# Altium schematic symbol library WE-CAIR.SchLib: 60 symbols (part 1 of 2)
Pins are listed as number, name and electrical type; pins without a type are passive.

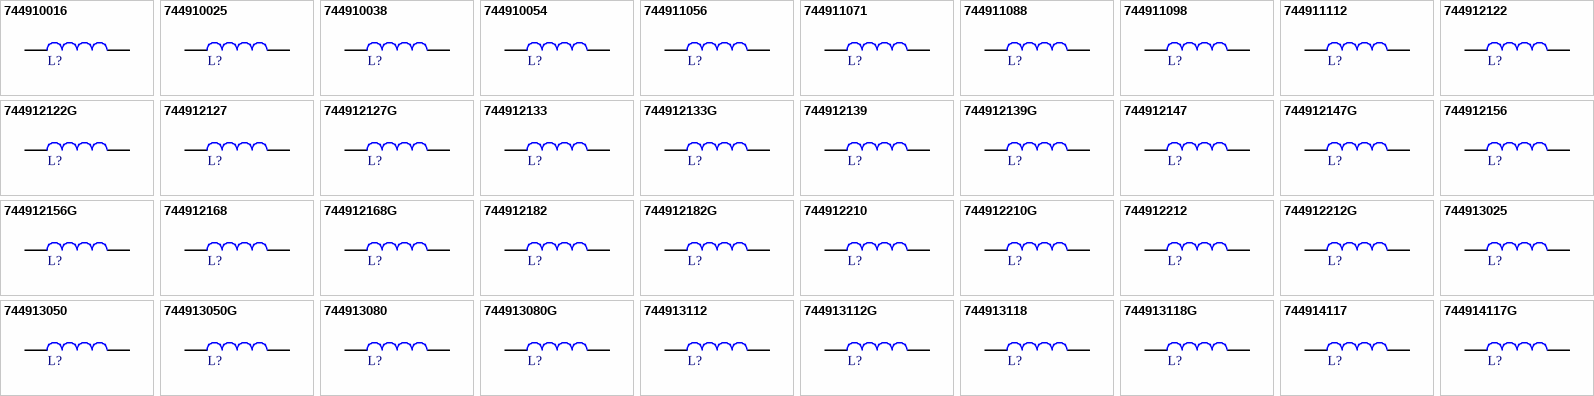
[diagram p0: symbols 744910016 to 744914117G]

## 744910016
designator L?, comment 1.65nH  (value not drawn)
WE-CAIR SMT Air Coil, size 1322, 1.65nH, 1.6A, 4mΩ; Manufacturer Part Number: 744910016; Manufacturer: Wurth Elektronik; Case/Size Code: 1322; Inductance Tolerance: 10%; Q Factor: 100; Self Resonant Frequency: 10GHz; Category: RF Inductors; Match Code: WE-CAIR; ComponentLink1Description: Website Link; ComponentLink1URL: https://www.we-online.com/redexpert/article/744910016?ad; ComponentLink2Description: Datasheet Link; ComponentLink2URL: https://www.we-online.com/redexpert/spec/744910016?ad; Mount: Surface Mount; Operating Temperature Max: 125°C; Operating Temperature Min: -40°C; Packaging: Tape and Reel; Length: 2.21mm; Width: 1.42mm; Height: 1.37mm; DC Resistance Max: 4mΩ; Inductance: 1.65nH; Rated Current: 1.6A
footprint WE-CAIR_1322
simulation model 1322_744910016_1.65n
pins: 1, 2

## 744910025
designator L?, comment 2.55nH  (value not drawn)
WE-CAIR SMT Air Coil, size 1322, 2.55nH, 1.6A, 5mΩ; Manufacturer Part Number: 744910025; Manufacturer: Wurth Elektronik; Case/Size Code: 1322; Inductance Tolerance: 5%; Q Factor: 100; Self Resonant Frequency: 8.2GHz; Category: RF Inductors; Match Code: WE-CAIR; ComponentLink1Description: Website Link; ComponentLink1URL: https://www.we-online.com/redexpert/article/744910025?ad; ComponentLink2Description: Datasheet Link; ComponentLink2URL: https://www.we-online.com/redexpert/spec/744910025?ad; Mount: Surface Mount; Operating Temperature Max: 125°C; Operating Temperature Min: -40°C; Packaging: Tape and Reel; Length: 2.21mm; Width: 1.42mm; Height: 1.37mm; DC Resistance Max: 5mΩ; Inductance: 2.55nH; Rated Current: 1.6A
footprint WE-CAIR_1322
simulation model 1322_744910025_2.55n
pins: 1, 2

## 744910038
designator L?, comment 3.85nH  (value not drawn)
WE-CAIR SMT Air Coil, size 1322, 3.85nH, 1.6A, 6mΩ; Manufacturer Part Number: 744910038; Manufacturer: Wurth Elektronik; Case/Size Code: 1322; Inductance Tolerance: 5%; Q Factor: 100; Self Resonant Frequency: 7.5GHz; Category: RF Inductors; Match Code: WE-CAIR; ComponentLink1Description: Website Link; ComponentLink1URL: https://www.we-online.com/redexpert/article/744910038?ad; ComponentLink2Description: Datasheet Link; ComponentLink2URL: https://www.we-online.com/redexpert/spec/744910038?ad; Mount: Surface Mount; Operating Temperature Max: 125°C; Operating Temperature Min: -40°C; Packaging: Tape and Reel; Length: 2.21mm; Width: 1.42mm; Height: 1.37mm; DC Resistance Max: 6mΩ; Inductance: 3.85nH; Rated Current: 1.6A
footprint WE-CAIR_1322
simulation model 1322_744910038_3.85n
pins: 1, 2

## 744910054
designator L?, comment 5.45nH  (value not drawn)
WE-CAIR SMT Air Coil, size 1322, 5.45nH, 1.6A, 8mΩ; Manufacturer Part Number: 744910054; Manufacturer: Wurth Elektronik; Case/Size Code: 1322; Inductance Tolerance: 5%; Q Factor: 100; Self Resonant Frequency: 7GHz; Category: RF Inductors; Match Code: WE-CAIR; ComponentLink1Description: Website Link; ComponentLink1URL: https://www.we-online.com/redexpert/article/744910054?ad; ComponentLink2Description: Datasheet Link; ComponentLink2URL: https://www.we-online.com/redexpert/spec/744910054?ad; Mount: Surface Mount; Operating Temperature Max: 125°C; Operating Temperature Min: -40°C; Packaging: Tape and Reel; Length: 2.21mm; Width: 1.42mm; Height: 1.37mm; DC Resistance Max: 8mΩ; Inductance: 5.45nH; Rated Current: 1.6A
footprint WE-CAIR_1322
simulation model 1322_744910054_5.45n
pins: 1, 2

## 744911056
designator L?, comment 5.6nH  (value not drawn)
WE-CAIR SMT Air Coil, size 1340, 5.6nH, 1.6A, 9mΩ; Manufacturer Part Number: 744911056; Manufacturer: Wurth Elektronik; Case/Size Code: 1340; Inductance Tolerance: 5%; Q Factor: 100; Self Resonant Frequency: 6.5GHz; Category: RF Inductors; Match Code: WE-CAIR; ComponentLink1Description: Website Link; ComponentLink1URL: https://www.we-online.com/redexpert/article/744911056?ad; ComponentLink2Description: Datasheet Link; ComponentLink2URL: https://www.we-online.com/redexpert/spec/744911056?ad; Mount: Surface Mount; Operating Temperature Max: 125°C; Operating Temperature Min: -40°C; Packaging: Tape and Reel; Length: 4.04mm; Width: 1.42mm; Height: 1.37mm; DC Resistance Max: 9mΩ; Inductance: 5.6nH; Rated Current: 1.6A
footprint WE-CAIR_1340
simulation model 1340_744911056_5.6n
pins: 1, 2

## 744911071
designator L?, comment 7.15nH  (value not drawn)
WE-CAIR SMT Air Coil, size 1340, 7.15nH, 1.6A, 10mΩ; Manufacturer Part Number: 744911071; Manufacturer: Wurth Elektronik; Case/Size Code: 1340; Inductance Tolerance: 5%; Q Factor: 100; Self Resonant Frequency: 6GHz; Category: RF Inductors; Match Code: WE-CAIR; ComponentLink1Description: Website Link; ComponentLink1URL: https://www.we-online.com/redexpert/article/744911071?ad; ComponentLink2Description: Datasheet Link; ComponentLink2URL: https://www.we-online.com/redexpert/spec/744911071?ad; Mount: Surface Mount; Operating Temperature Max: 125°C; Operating Temperature Min: -40°C; Packaging: Tape and Reel; Length: 4.04mm; Width: 1.42mm; Height: 1.37mm; DC Resistance Max: 10mΩ; Inductance: 7.15nH; Rated Current: 1.6A
footprint WE-CAIR_1340
simulation model 1340_744911071_7.15n
pins: 1, 2

## 744911088
designator L?, comment 8.8nH  (value not drawn)
WE-CAIR SMT Air Coil, size 1340, 8.8nH, 1.6A, 12mΩ; Manufacturer Part Number: 744911088; Manufacturer: Wurth Elektronik; Case/Size Code: 1340; Inductance Tolerance: 5%; Q Factor: 100; Self Resonant Frequency: 6GHz; Category: RF Inductors; Match Code: WE-CAIR; ComponentLink1Description: Website Link; ComponentLink1URL: https://www.we-online.com/redexpert/article/744911088?ad; ComponentLink2Description: Datasheet Link; ComponentLink2URL: https://www.we-online.com/redexpert/spec/744911088?ad; Mount: Surface Mount; Operating Temperature Max: 125°C; Operating Temperature Min: -40°C; Packaging: Tape and Reel; Length: 4.04mm; Width: 1.42mm; Height: 1.37mm; DC Resistance Max: 12mΩ; Inductance: 8.8nH; Rated Current: 1.6A
footprint WE-CAIR_1340
simulation model 1340_744911088_8.8n
pins: 1, 2

## 744911098
designator L?, comment 9.85nH  (value not drawn)
WE-CAIR SMT Air Coil, size 1340, 9.85nH, 1.6A, 13mΩ; Manufacturer Part Number: 744911098; Manufacturer: Wurth Elektronik; Case/Size Code: 1340; Inductance Tolerance: 5%; Q Factor: 100; Self Resonant Frequency: 5.2GHz; Category: RF Inductors; Match Code: WE-CAIR; ComponentLink1Description: Website Link; ComponentLink1URL: https://www.we-online.com/redexpert/article/744911098?ad; ComponentLink2Description: Datasheet Link; ComponentLink2URL: https://www.we-online.com/redexpert/spec/744911098?ad; Mount: Surface Mount; Operating Temperature Max: 125°C; Operating Temperature Min: -40°C; Packaging: Tape and Reel; Length: 4.04mm; Width: 1.42mm; Height: 1.37mm; DC Resistance Max: 13mΩ; Inductance: 9.85nH; Rated Current: 1.6A
footprint WE-CAIR_1340
simulation model 1340_744911098_9.85n
pins: 1, 2

## 744911112
designator L?, comment 12.55nH  (value not drawn)
WE-CAIR SMT Air Coil, size 1340, 12.55nH, 1.6A, 14mΩ; Manufacturer Part Number: 744911112; Manufacturer: Wurth Elektronik; Case/Size Code: 1340; Inductance Tolerance: 5%; Q Factor: 100; Self Resonant Frequency: 4.6GHz; Category: RF Inductors; Match Code: WE-CAIR; ComponentLink1Description: Website Link; ComponentLink1URL: https://www.we-online.com/redexpert/article/744911112?ad; ComponentLink2Description: Datasheet Link; ComponentLink2URL: https://www.we-online.com/redexpert/spec/744911112?ad; Mount: Surface Mount; Operating Temperature Max: 125°C; Operating Temperature Min: -40°C; Packaging: Tape and Reel; Length: 4.04mm; Width: 1.42mm; Height: 1.37mm; DC Resistance Max: 14mΩ; Inductance: 12.55nH; Rated Current: 1.6A
footprint WE-CAIR_1340
simulation model 1340_744911112_12.55n
pins: 1, 2

## 744912122
designator L?, comment 22nH  (value not drawn)
WE-CAIR SMT Air Coil, size 4248, 22nH, 3A, 4.2mΩ; Manufacturer Part Number: 744912122; Manufacturer: Wurth Elektronik; Case/Size Code: 4248; Inductance Tolerance: 5%; Q Factor: 100; Self Resonant Frequency: 3.2GHz; Category: RF Inductors; Match Code: WE-CAIR; ComponentLink1Description: Website Link; ComponentLink1URL: https://www.we-online.com/redexpert/article/744912122?ad; ComponentLink2Description: Datasheet Link; ComponentLink2URL: https://www.we-online.com/redexpert/spec/744912122?ad; Mount: Surface Mount; Operating Temperature Max: 125°C; Operating Temperature Min: -40°C; Packaging: Tape and Reel; Length: 4.83mm; Width: 3.81mm; Height: 4.2mm; DC Resistance Max: 4.2mΩ; Inductance: 22nH; Rated Current: 3A
footprint WE-CAIR_4248
simulation model 4248_744912122_22n
pins: 1, 2

## 744912122G
designator L?, comment 22nH  (value not drawn)
WE-CAIR SMT Air Coil, size 4248, 22nH, 3A, 4.2mΩ; Manufacturer Part Number: 744912122G; Manufacturer: Wurth Elektronik; Case/Size Code: 4248; Inductance Tolerance: 2%; Q Factor: 100; Self Resonant Frequency: 3.2GHz; Category: RF Inductors; Match Code: WE-CAIR; ComponentLink1Description: Website Link; ComponentLink1URL: https://www.we-online.com/redexpert/article/744912122G?ad; ComponentLink2Description: Datasheet Link; ComponentLink2URL: https://www.we-online.com/redexpert/spec/744912122G?ad; Mount: Surface Mount; Operating Temperature Max: 125°C; Operating Temperature Min: -40°C; Packaging: Tape and Reel; Length: 4.83mm; Width: 3.81mm; Height: 4.2mm; DC Resistance Max: 4.2mΩ; Inductance: 22nH; Rated Current: 3A
footprint WE-CAIR_4248
simulation model 4248_744912122G_22n
pins: 1, 2

## 744912127
designator L?, comment 27nH  (value not drawn)
WE-CAIR SMT Air Coil, size 4248, 27nH, 3.5A, 4mΩ; Manufacturer Part Number: 744912127; Manufacturer: Wurth Elektronik; Case/Size Code: 4248; Inductance Tolerance: 5%; Q Factor: 100; Self Resonant Frequency: 2.7GHz; Category: RF Inductors; Match Code: WE-CAIR; ComponentLink1Description: Website Link; ComponentLink1URL: https://www.we-online.com/redexpert/article/744912127?ad; ComponentLink2Description: Datasheet Link; ComponentLink2URL: https://www.we-online.com/redexpert/spec/744912127?ad; Mount: Surface Mount; Operating Temperature Max: 125°C; Operating Temperature Min: -40°C; Packaging: Tape and Reel; Length: 4.83mm; Width: 3.81mm; Height: 4.2mm; DC Resistance Max: 4mΩ; Inductance: 27nH; Rated Current: 3.5A
footprint WE-CAIR_4248
simulation model 4248_744912127_27n
pins: 1, 2

## 744912127G
designator L?, comment 27nH  (value not drawn)
WE-CAIR SMT Air Coil, size 4248, 27nH, 3.5A, 4mΩ; Manufacturer Part Number: 744912127G; Manufacturer: Wurth Elektronik; Case/Size Code: 4248; Inductance Tolerance: 2%; Q Factor: 100; Self Resonant Frequency: 2.7GHz; Category: RF Inductors; Match Code: WE-CAIR; ComponentLink1Description: Website Link; ComponentLink1URL: https://www.we-online.com/redexpert/article/744912127G?ad; ComponentLink2Description: Datasheet Link; ComponentLink2URL: https://www.we-online.com/redexpert/spec/744912127G?ad; Mount: Surface Mount; Operating Temperature Max: 125°C; Operating Temperature Min: -40°C; Packaging: Tape and Reel; Length: 4.83mm; Width: 3.81mm; Height: 4.2mm; DC Resistance Max: 4mΩ; Inductance: 27nH; Rated Current: 3.5A
footprint WE-CAIR_4248
simulation model 4248_744912127G_27n
pins: 1, 2

## 744912133
designator L?, comment 33nH  (value not drawn)
WE-CAIR SMT Air Coil, size 4248, 33nH, 3A, 4.8mΩ; Manufacturer Part Number: 744912133; Manufacturer: Wurth Elektronik; Case/Size Code: 4248; Inductance Tolerance: 5%; Q Factor: 100; Self Resonant Frequency: 2.5GHz; Category: RF Inductors; Match Code: WE-CAIR; ComponentLink1Description: Website Link; ComponentLink1URL: https://www.we-online.com/redexpert/article/744912133?ad; ComponentLink2Description: Datasheet Link; ComponentLink2URL: https://www.we-online.com/redexpert/spec/744912133?ad; Mount: Surface Mount; Operating Temperature Max: 125°C; Operating Temperature Min: -40°C; Packaging: Tape and Reel; Length: 4.83mm; Width: 3.81mm; Height: 4.2mm; DC Resistance Max: 4.8mΩ; Inductance: 33nH; Rated Current: 3A
footprint WE-CAIR_4248
simulation model 4248_744912133_33n
pins: 1, 2

## 744912133G
designator L?, comment 33nH  (value not drawn)
WE-CAIR SMT Air Coil, size 4248, 33nH, 3A, 4.8mΩ; Manufacturer Part Number: 744912133G; Manufacturer: Wurth Elektronik; Case/Size Code: 4248; Inductance Tolerance: 2%; Q Factor: 100; Self Resonant Frequency: 2.5GHz; Category: RF Inductors; Match Code: WE-CAIR; ComponentLink1Description: Website Link; ComponentLink1URL: https://www.we-online.com/redexpert/article/744912133G?ad; ComponentLink2Description: Datasheet Link; ComponentLink2URL: https://www.we-online.com/redexpert/spec/744912133G?ad; Mount: Surface Mount; Operating Temperature Max: 125°C; Operating Temperature Min: -40°C; Packaging: Tape and Reel; Length: 4.83mm; Width: 3.81mm; Height: 4.2mm; DC Resistance Max: 4.8mΩ; Inductance: 33nH; Rated Current: 3A
footprint WE-CAIR_4248
simulation model 4248_744912133G_33n
pins: 1, 2

## 744912139
designator L?, comment 39nH  (value not drawn)
WE-CAIR SMT Air Coil, size 4248, 39nH, 3A, 4.4mΩ; Manufacturer Part Number: 744912139; Manufacturer: Wurth Elektronik; Case/Size Code: 4248; Inductance Tolerance: 5%; Q Factor: 100; Self Resonant Frequency: 2.1GHz; Category: RF Inductors; Match Code: WE-CAIR; ComponentLink1Description: Website Link; ComponentLink1URL: https://www.we-online.com/redexpert/article/744912139?ad; ComponentLink2Description: Datasheet Link; ComponentLink2URL: https://www.we-online.com/redexpert/spec/744912139?ad; Mount: Surface Mount; Operating Temperature Max: 125°C; Operating Temperature Min: -40°C; Packaging: Tape and Reel; Length: 4.83mm; Width: 3.81mm; Height: 4.2mm; DC Resistance Max: 4.4mΩ; Inductance: 39nH; Rated Current: 3A
footprint WE-CAIR_4248
simulation model 4248_744912139_39n
pins: 1, 2

## 744912139G
designator L?, comment 39nH  (value not drawn)
WE-CAIR SMT Air Coil, size 4248, 39nH, 3A, 4.4mΩ; Manufacturer Part Number: 744912139G; Manufacturer: Wurth Elektronik; Case/Size Code: 4248; Inductance Tolerance: 2%; Q Factor: 100; Self Resonant Frequency: 2.1GHz; Category: RF Inductors; Match Code: WE-CAIR; ComponentLink1Description: Website Link; ComponentLink1URL: https://www.we-online.com/redexpert/article/744912139G?ad; ComponentLink2Description: Datasheet Link; ComponentLink2URL: https://www.we-online.com/redexpert/spec/744912139G?ad; Mount: Surface Mount; Operating Temperature Max: 125°C; Operating Temperature Min: -40°C; Packaging: Tape and Reel; Length: 4.83mm; Width: 3.81mm; Height: 4.2mm; DC Resistance Max: 4.4mΩ; Inductance: 39nH; Rated Current: 3A
footprint WE-CAIR_4248
simulation model 4248_744912139G_39n
pins: 1, 2

## 744912147
designator L?, comment 47nH  (value not drawn)
WE-CAIR SMT Air Coil, size 4248, 47nH, 3A, 5.6mΩ; Manufacturer Part Number: 744912147; Manufacturer: Wurth Elektronik; Case/Size Code: 4248; Inductance Tolerance: 5%; Q Factor: 100; Self Resonant Frequency: 2.1GHz; Category: RF Inductors; Match Code: WE-CAIR; ComponentLink1Description: Website Link; ComponentLink1URL: https://www.we-online.com/redexpert/article/744912147?ad; ComponentLink2Description: Datasheet Link; ComponentLink2URL: https://www.we-online.com/redexpert/spec/744912147?ad; Mount: Surface Mount; Operating Temperature Max: 125°C; Operating Temperature Min: -40°C; Packaging: Tape and Reel; Length: 4.83mm; Width: 3.81mm; Height: 4.2mm; DC Resistance Max: 5.6mΩ; Inductance: 47nH; Rated Current: 3A
footprint WE-CAIR_4248
simulation model 4248_744912147_47n
pins: 1, 2

## 744912147G
designator L?, comment 47nH  (value not drawn)
WE-CAIR SMT Air Coil, size 4248, 47nH, 3A, 5.6mΩ; Manufacturer Part Number: 744912147G; Manufacturer: Wurth Elektronik; Case/Size Code: 4248; Inductance Tolerance: 2%; Q Factor: 100; Self Resonant Frequency: 2.1GHz; Category: RF Inductors; Match Code: WE-CAIR; ComponentLink1Description: Website Link; ComponentLink1URL: https://www.we-online.com/redexpert/article/744912147G?ad; ComponentLink2Description: Datasheet Link; ComponentLink2URL: https://www.we-online.com/redexpert/spec/744912147G?ad; Mount: Surface Mount; Operating Temperature Max: 125°C; Operating Temperature Min: -40°C; Packaging: Tape and Reel; Length: 4.83mm; Width: 3.81mm; Height: 4.2mm; DC Resistance Max: 5.6mΩ; Inductance: 47nH; Rated Current: 3A
footprint WE-CAIR_4248
simulation model 4248_744912147G_47n
pins: 1, 2

## 744912156
designator L?, comment 56nH  (value not drawn)
WE-CAIR SMT Air Coil, size 4248, 56nH, 3A, 6.2mΩ; Manufacturer Part Number: 744912156; Manufacturer: Wurth Elektronik; Case/Size Code: 4248; Inductance Tolerance: 5%; Q Factor: 100; Self Resonant Frequency: 1.5GHz; Category: RF Inductors; Match Code: WE-CAIR; ComponentLink1Description: Website Link; ComponentLink1URL: https://www.we-online.com/redexpert/article/744912156?ad; ComponentLink2Description: Datasheet Link; ComponentLink2URL: https://www.we-online.com/redexpert/spec/744912156?ad; Mount: Surface Mount; Operating Temperature Max: 125°C; Operating Temperature Min: -40°C; Packaging: Tape and Reel; Length: 4.83mm; Width: 3.81mm; Height: 4.2mm; DC Resistance Max: 6.2mΩ; Inductance: 56nH; Rated Current: 3A
footprint WE-CAIR_4248
simulation model 4248_744912156_56n
pins: 1, 2

## 744912156G
designator L?, comment 56nH  (value not drawn)
WE-CAIR SMT Air Coil, size 4248, 56nH, 3A, 6.2mΩ; Manufacturer Part Number: 744912156G; Manufacturer: Wurth Elektronik; Case/Size Code: 4248; Inductance Tolerance: 2%; Q Factor: 100; Self Resonant Frequency: 1.5GHz; Category: RF Inductors; Match Code: WE-CAIR; ComponentLink1Description: Website Link; ComponentLink1URL: https://www.we-online.com/redexpert/article/744912156G?ad; ComponentLink2Description: Datasheet Link; ComponentLink2URL: https://www.we-online.com/redexpert/spec/744912156G?ad; Mount: Surface Mount; Operating Temperature Max: 125°C; Operating Temperature Min: -40°C; Packaging: Tape and Reel; Length: 4.83mm; Width: 3.81mm; Height: 4.2mm; DC Resistance Max: 6.2mΩ; Inductance: 56nH; Rated Current: 3A
footprint WE-CAIR_4248
simulation model 4248_744912156G_56n
pins: 1, 2

## 744912168
designator L?, comment 68nH  (value not drawn)
WE-CAIR SMT Air Coil, size 4248, 68nH, 2.5A, 8.2mΩ; Manufacturer Part Number: 744912168; Manufacturer: Wurth Elektronik; Case/Size Code: 4248; Inductance Tolerance: 5%; Q Factor: 100; Self Resonant Frequency: 1.5GHz; Category: RF Inductors; Match Code: WE-CAIR; ComponentLink1Description: Website Link; ComponentLink1URL: https://www.we-online.com/redexpert/article/744912168?ad; ComponentLink2Description: Datasheet Link; ComponentLink2URL: https://www.we-online.com/redexpert/spec/744912168?ad; Mount: Surface Mount; Operating Temperature Max: 125°C; Operating Temperature Min: -40°C; Packaging: Tape and Reel; Length: 4.83mm; Width: 3.81mm; Height: 4.2mm; DC Resistance Max: 8.2mΩ; Inductance: 68nH; Rated Current: 2.5A
footprint WE-CAIR_4248
simulation model 4248_744912168_68n
pins: 1, 2

## 744912168G
designator L?, comment 68nH  (value not drawn)
WE-CAIR SMT Air Coil, size 4248, 68nH, 2.5A, 8.2mΩ; Manufacturer Part Number: 744912168G; Manufacturer: Wurth Elektronik; Case/Size Code: 4248; Inductance Tolerance: 2%; Q Factor: 100; Self Resonant Frequency: 1.5GHz; Category: RF Inductors; Match Code: WE-CAIR; ComponentLink1Description: Website Link; ComponentLink1URL: https://www.we-online.com/redexpert/article/744912168G?ad; ComponentLink2Description: Datasheet Link; ComponentLink2URL: https://www.we-online.com/redexpert/spec/744912168G?ad; Mount: Surface Mount; Operating Temperature Max: 125°C; Operating Temperature Min: -40°C; Packaging: Tape and Reel; Length: 4.83mm; Width: 3.81mm; Height: 4.2mm; DC Resistance Max: 8.2mΩ; Inductance: 68nH; Rated Current: 2.5A
footprint WE-CAIR_4248
simulation model 4248_744912168G_68n
pins: 1, 2

## 744912182
designator L?, comment 82nH  (value not drawn)
WE-CAIR SMT Air Coil, size 4248, 82nH, 2.5A, 9.4mΩ; Manufacturer Part Number: 744912182; Manufacturer: Wurth Elektronik; Case/Size Code: 4248; Inductance Tolerance: 5%; Q Factor: 100; Self Resonant Frequency: 1.3GHz; Category: RF Inductors; Match Code: WE-CAIR; ComponentLink1Description: Website Link; ComponentLink1URL: https://www.we-online.com/redexpert/article/744912182?ad; ComponentLink2Description: Datasheet Link; ComponentLink2URL: https://www.we-online.com/redexpert/spec/744912182?ad; Mount: Surface Mount; Operating Temperature Max: 125°C; Operating Temperature Min: -40°C; Packaging: Tape and Reel; Length: 4.83mm; Width: 3.81mm; Height: 4.2mm; DC Resistance Max: 9.4mΩ; Inductance: 82nH; Rated Current: 2.5A
footprint WE-CAIR_4248
simulation model 4248_744912182_82n
pins: 1, 2

## 744912182G
designator L?, comment 82nH  (value not drawn)
WE-CAIR SMT Air Coil, size 4248, 82nH, 2.5A, 9.4mΩ; Manufacturer Part Number: 744912182G; Manufacturer: Wurth Elektronik; Case/Size Code: 4248; Inductance Tolerance: 2%; Q Factor: 100; Self Resonant Frequency: 1.3GHz; Category: RF Inductors; Match Code: WE-CAIR; ComponentLink1Description: Website Link; ComponentLink1URL: https://www.we-online.com/redexpert/article/744912182G?ad; ComponentLink2Description: Datasheet Link; ComponentLink2URL: https://www.we-online.com/redexpert/spec/744912182G?ad; Mount: Surface Mount; Operating Temperature Max: 125°C; Operating Temperature Min: -40°C; Packaging: Tape and Reel; Length: 4.83mm; Width: 3.81mm; Height: 4.2mm; DC Resistance Max: 9.4mΩ; Inductance: 82nH; Rated Current: 2.5A
footprint WE-CAIR_4248
simulation model 4248_744912182G_82n
pins: 1, 2

## 744912210
designator L?, comment 100nH  (value not drawn)
WE-CAIR SMT Air Coil, size 4248, 100nH, 1.7A, 12.3mΩ; Manufacturer Part Number: 744912210; Manufacturer: Wurth Elektronik; Case/Size Code: 4248; Inductance Tolerance: 5%; Q Factor: 100; Self Resonant Frequency: 1.2GHz; Category: RF Inductors; Match Code: WE-CAIR; ComponentLink1Description: Website Link; ComponentLink1URL: https://www.we-online.com/redexpert/article/744912210?ad; ComponentLink2Description: Datasheet Link; ComponentLink2URL: https://www.we-online.com/redexpert/spec/744912210?ad; Mount: Surface Mount; Operating Temperature Max: 125°C; Operating Temperature Min: -40°C; Packaging: Tape and Reel; Length: 4.83mm; Width: 3.81mm; Height: 4.2mm; DC Resistance Max: 12.3mΩ; Inductance: 100nH; Rated Current: 1.7A
footprint WE-CAIR_4248
simulation model 4248_744912210_100n
pins: 1, 2

## 744912210G
designator L?, comment 100nH  (value not drawn)
WE-CAIR SMT Air Coil, size 4248, 100nH, 1.7A, 12.3mΩ; Manufacturer Part Number: 744912210G; Manufacturer: Wurth Elektronik; Case/Size Code: 4248; Inductance Tolerance: 2%; Q Factor: 100; Self Resonant Frequency: 1.2GHz; Category: RF Inductors; Match Code: WE-CAIR; ComponentLink1Description: Website Link; ComponentLink1URL: https://www.we-online.com/redexpert/article/744912210G?ad; ComponentLink2Description: Datasheet Link; ComponentLink2URL: https://www.we-online.com/redexpert/spec/744912210G?ad; Mount: Surface Mount; Operating Temperature Max: 125°C; Operating Temperature Min: -40°C; Packaging: Tape and Reel; Length: 4.83mm; Width: 3.81mm; Height: 4.2mm; DC Resistance Max: 12.3mΩ; Inductance: 100nH; Rated Current: 1.7A
footprint WE-CAIR_4248
simulation model 4248_744912210G_100n
pins: 1, 2

## 744912212
designator L?, comment 120nH  (value not drawn)
WE-CAIR SMT Air Coil, size 4248, 120nH, 1.5A, 17.3mΩ; Manufacturer Part Number: 744912212; Manufacturer: Wurth Elektronik; Case/Size Code: 4248; Inductance Tolerance: 5%; Q Factor: 100; Self Resonant Frequency: 1.1GHz; Category: RF Inductors; Match Code: WE-CAIR; ComponentLink1Description: Website Link; ComponentLink1URL: https://www.we-online.com/redexpert/article/744912212?ad; ComponentLink2Description: Datasheet Link; ComponentLink2URL: https://www.we-online.com/redexpert/spec/744912212?ad; Mount: Surface Mount; Operating Temperature Max: 125°C; Operating Temperature Min: -40°C; Packaging: Tape and Reel; Length: 4.83mm; Width: 3.81mm; Height: 4.2mm; DC Resistance Max: 17.3mΩ; Inductance: 120nH; Rated Current: 1.5A
footprint WE-CAIR_4248
simulation model 4248_744912212_120n
pins: 1, 2

## 744912212G
designator L?, comment 120nH  (value not drawn)
WE-CAIR SMT Air Coil, size 4248, 120nH, 1.5A, 17.3mΩ; Manufacturer Part Number: 744912212G; Manufacturer: Wurth Elektronik; Case/Size Code: 4248; Inductance Tolerance: 2%; Q Factor: 100; Self Resonant Frequency: 1.1GHz; Category: RF Inductors; Match Code: WE-CAIR; ComponentLink1Description: Website Link; ComponentLink1URL: https://www.we-online.com/redexpert/article/744912212G?ad; ComponentLink2Description: Datasheet Link; ComponentLink2URL: https://www.we-online.com/redexpert/spec/744912212G?ad; Mount: Surface Mount; Operating Temperature Max: 125°C; Operating Temperature Min: -40°C; Packaging: Tape and Reel; Length: 4.83mm; Width: 3.81mm; Height: 4.2mm; DC Resistance Max: 17.3mΩ; Inductance: 120nH; Rated Current: 1.5A
footprint WE-CAIR_4248
simulation model 4248_744912212G_120n
pins: 1, 2

## 744913025
designator L?, comment 2.5nH  (value not drawn)
WE-CAIR SMT Air Coil, size 3136, 2.5nH, 4A, 1.1mΩ; Manufacturer Part Number: 744913025; Manufacturer: Wurth Elektronik; Case/Size Code: 3136; Inductance Tolerance: 5%; Q Factor: 140; Self Resonant Frequency: 12.5GHz; Category: RF Inductors; Match Code: WE-CAIR; ComponentLink1Description: Website Link; ComponentLink1URL: https://www.we-online.com/redexpert/article/744913025?ad; ComponentLink2Description: Datasheet Link; ComponentLink2URL: https://www.we-online.com/redexpert/spec/744913025?ad; Mount: Surface Mount; Operating Temperature Max: 125°C; Operating Temperature Min: -40°C; Packaging: Tape and Reel; Length: 3.68mm; Width: 3.05mm; Height: 3.18mm; DC Resistance Max: 1.1mΩ; Inductance: 2.5nH; Rated Current: 4A
footprint WE-CAIR_3136
simulation model 3136_744913025_2.5n
pins: 1, 2

## 744913050
designator L?, comment 5nH  (value not drawn)
WE-CAIR SMT Air Coil, size 3136, 5nH, 4A, 1.8mΩ; Manufacturer Part Number: 744913050; Manufacturer: Wurth Elektronik; Case/Size Code: 3136; Inductance Tolerance: 5%; Q Factor: 140; Self Resonant Frequency: 6.5GHz; Category: RF Inductors; Match Code: WE-CAIR; ComponentLink1Description: Website Link; ComponentLink1URL: https://www.we-online.com/redexpert/article/744913050?ad; ComponentLink2Description: Datasheet Link; ComponentLink2URL: https://www.we-online.com/redexpert/spec/744913050?ad; Mount: Surface Mount; Operating Temperature Max: 125°C; Operating Temperature Min: -40°C; Packaging: Tape and Reel; Length: 3.68mm; Width: 3.05mm; Height: 3.18mm; DC Resistance Max: 1.8mΩ; Inductance: 5nH; Rated Current: 4A
footprint WE-CAIR_3136
simulation model 3136_744913050_5n
pins: 1, 2

## 744913050G
designator L?, comment 5nH  (value not drawn)
WE-CAIR SMT Air Coil, size 3136, 5nH, 4A, 1.8mΩ; Manufacturer Part Number: 744913050G; Manufacturer: Wurth Elektronik; Case/Size Code: 3136; Inductance Tolerance: 2%; Q Factor: 140; Self Resonant Frequency: 6.5GHz; Category: RF Inductors; Match Code: WE-CAIR; ComponentLink1Description: Website Link; ComponentLink1URL: https://www.we-online.com/redexpert/article/744913050G?ad; ComponentLink2Description: Datasheet Link; ComponentLink2URL: https://www.we-online.com/redexpert/spec/744913050G?ad; Mount: Surface Mount; Operating Temperature Max: 125°C; Operating Temperature Min: -40°C; Packaging: Tape and Reel; Length: 3.68mm; Width: 3.05mm; Height: 3.18mm; DC Resistance Max: 1.8mΩ; Inductance: 5nH; Rated Current: 4A
footprint WE-CAIR_3136
simulation model 3136_744913050G_5n
pins: 1, 2

## 744913080
designator L?, comment 8nH  (value not drawn)
WE-CAIR SMT Air Coil, size 3136, 8nH, 4A, 2.6mΩ; Manufacturer Part Number: 744913080; Manufacturer: Wurth Elektronik; Case/Size Code: 3136; Inductance Tolerance: 5%; Q Factor: 140; Self Resonant Frequency: 5GHz; Category: RF Inductors; Match Code: WE-CAIR; ComponentLink1Description: Website Link; ComponentLink1URL: https://www.we-online.com/redexpert/article/744913080?ad; ComponentLink2Description: Datasheet Link; ComponentLink2URL: https://www.we-online.com/redexpert/spec/744913080?ad; Mount: Surface Mount; Operating Temperature Max: 125°C; Operating Temperature Min: -40°C; Packaging: Tape and Reel; Length: 3.68mm; Width: 3.05mm; Height: 3.18mm; DC Resistance Max: 2.6mΩ; Inductance: 8nH; Rated Current: 4A
footprint WE-CAIR_3136
simulation model 3136_744913080_8n
pins: 1, 2

## 744913080G
designator L?, comment 8nH  (value not drawn)
WE-CAIR SMT Air Coil, size 3136, 8nH, 4A, 2.6mΩ; Manufacturer Part Number: 744913080G; Manufacturer: Wurth Elektronik; Case/Size Code: 3136; Inductance Tolerance: 2%; Q Factor: 140; Self Resonant Frequency: 5GHz; Category: RF Inductors; Match Code: WE-CAIR; ComponentLink1Description: Website Link; ComponentLink1URL: https://www.we-online.com/redexpert/article/744913080G?ad; ComponentLink2Description: Datasheet Link; ComponentLink2URL: https://www.we-online.com/redexpert/spec/744913080G?ad; Mount: Surface Mount; Operating Temperature Max: 125°C; Operating Temperature Min: -40°C; Packaging: Tape and Reel; Length: 3.68mm; Width: 3.05mm; Height: 3.18mm; DC Resistance Max: 2.6mΩ; Inductance: 8nH; Rated Current: 4A
footprint WE-CAIR_3136
simulation model 3136_744913080G_8n
pins: 1, 2

## 744913112
designator L?, comment 12.5nH  (value not drawn)
WE-CAIR SMT Air Coil, size 3136, 12.5nH, 4A, 3.4mΩ; Manufacturer Part Number: 744913112; Manufacturer: Wurth Elektronik; Case/Size Code: 3136; Inductance Tolerance: 5%; Q Factor: 137; Self Resonant Frequency: 3.3GHz; Category: RF Inductors; Match Code: WE-CAIR; ComponentLink1Description: Website Link; ComponentLink1URL: https://www.we-online.com/redexpert/article/744913112?ad; ComponentLink2Description: Datasheet Link; ComponentLink2URL: https://www.we-online.com/redexpert/spec/744913112?ad; Mount: Surface Mount; Operating Temperature Max: 125°C; Operating Temperature Min: -40°C; Packaging: Tape and Reel; Length: 3.68mm; Width: 3.05mm; Height: 3.18mm; DC Resistance Max: 3.4mΩ; Inductance: 12.5nH; Rated Current: 4A
footprint WE-CAIR_3136
simulation model 3136_744913112_12.5n
pins: 1, 2

## 744913112G
designator L?, comment 12.5nH  (value not drawn)
WE-CAIR SMT Air Coil, size 3136, 12.5nH, 4A, 3.4mΩ; Manufacturer Part Number: 744913112G; Manufacturer: Wurth Elektronik; Case/Size Code: 3136; Inductance Tolerance: 2%; Q Factor: 137; Self Resonant Frequency: 3.3GHz; Category: RF Inductors; Match Code: WE-CAIR; ComponentLink1Description: Website Link; ComponentLink1URL: https://www.we-online.com/redexpert/article/744913112G?ad; ComponentLink2Description: Datasheet Link; ComponentLink2URL: https://www.we-online.com/redexpert/spec/744913112G?ad; Mount: Surface Mount; Operating Temperature Max: 125°C; Operating Temperature Min: -40°C; Packaging: Tape and Reel; Length: 3.68mm; Width: 3.05mm; Height: 3.18mm; DC Resistance Max: 3.4mΩ; Inductance: 12.5nH; Rated Current: 4A
footprint WE-CAIR_3136
simulation model 3136_744913112G_12.5n
pins: 1, 2

## 744913118
designator L?, comment 18.5nH  (value not drawn)
WE-CAIR SMT Air Coil, size 3136, 18.5nH, 4A, 3.9mΩ; Manufacturer Part Number: 744913118; Manufacturer: Wurth Elektronik; Case/Size Code: 3136; Inductance Tolerance: 5%; Q Factor: 132; Self Resonant Frequency: 2.5GHz; Category: RF Inductors; Match Code: WE-CAIR; ComponentLink1Description: Website Link; ComponentLink1URL: https://www.we-online.com/redexpert/article/744913118?ad; ComponentLink2Description: Datasheet Link; ComponentLink2URL: https://www.we-online.com/redexpert/spec/744913118?ad; Mount: Surface Mount; Operating Temperature Max: 125°C; Operating Temperature Min: -40°C; Packaging: Tape and Reel; Length: 3.68mm; Width: 3.05mm; Height: 3.18mm; DC Resistance Max: 3.9mΩ; Inductance: 18.5nH; Rated Current: 4A
footprint WE-CAIR_3136
simulation model 3136_744913118_18.5n
pins: 1, 2

## 744913118G
designator L?, comment 18.5nH  (value not drawn)
WE-CAIR SMT Air Coil, size 3136, 18.5nH, 4A, 3.9mΩ; Manufacturer Part Number: 744913118G; Manufacturer: Wurth Elektronik; Case/Size Code: 3136; Inductance Tolerance: 2%; Q Factor: 132; Self Resonant Frequency: 2.5GHz; Category: RF Inductors; Match Code: WE-CAIR; ComponentLink1Description: Website Link; ComponentLink1URL: https://www.we-online.com/redexpert/article/744913118G?ad; ComponentLink2Description: Datasheet Link; ComponentLink2URL: https://www.we-online.com/redexpert/spec/744913118G?ad; Mount: Surface Mount; Operating Temperature Max: 125°C; Operating Temperature Min: -40°C; Packaging: Tape and Reel; Length: 3.68mm; Width: 3.05mm; Height: 3.18mm; DC Resistance Max: 3.9mΩ; Inductance: 18.5nH; Rated Current: 4A
footprint WE-CAIR_3136
simulation model 3136_744913118G_18.5n
pins: 1, 2

## 744914117
designator L?, comment 17.5nH  (value not drawn)
WE-CAIR SMT Air Coil, size 3168, 17.5nH, 4A, 4.5mΩ; Manufacturer Part Number: 744914117; Manufacturer: Wurth Elektronik; Case/Size Code: 3168; Inductance Tolerance: 5%; Q Factor: 100; Self Resonant Frequency: 2.2GHz; Category: RF Inductors; Match Code: WE-CAIR; ComponentLink1Description: Website Link; ComponentLink1URL: https://www.we-online.com/redexpert/article/744914117?ad; ComponentLink2Description: Datasheet Link; ComponentLink2URL: https://www.we-online.com/redexpert/spec/744914117?ad; Mount: Surface Mount; Operating Temperature Max: 125°C; Operating Temperature Min: -40°C; Packaging: Tape and Reel; Length: 6.68mm; Width: 3.05mm; Height: 3.18mm; DC Resistance Max: 4.5mΩ; Inductance: 17.5nH; Rated Current: 4A
footprint WE-CAIR_3168
simulation model 3168_744914117_17.5n
pins: 1, 2

## 744914117G
designator L?, comment 17.5nH  (value not drawn)
WE-CAIR SMT Air Coil, size 3168, 17.5nH, 4A, 4.5mΩ; Manufacturer Part Number: 744914117G; Manufacturer: Wurth Elektronik; Case/Size Code: 3168; Inductance Tolerance: 2%; Q Factor: 100; Self Resonant Frequency: 2.2GHz; Category: RF Inductors; Match Code: WE-CAIR; ComponentLink1Description: Website Link; ComponentLink1URL: https://www.we-online.com/redexpert/article/744914117G?ad; ComponentLink2Description: Datasheet Link; ComponentLink2URL: https://www.we-online.com/redexpert/spec/744914117G?ad; Mount: Surface Mount; Operating Temperature Max: 125°C; Operating Temperature Min: -40°C; Packaging: Tape and Reel; Length: 6.68mm; Width: 3.05mm; Height: 3.18mm; DC Resistance Max: 4.5mΩ; Inductance: 17.5nH; Rated Current: 4A
footprint WE-CAIR_3168
simulation model 3168_744914117G_17.5n
pins: 1, 2

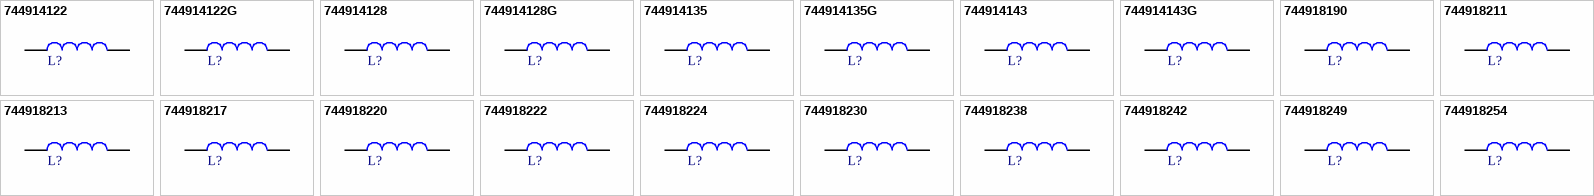
[diagram p1: symbols 744914122 to 744918254]

## 744914122
designator L?, comment 22nH  (value not drawn)
WE-CAIR SMT Air Coil, size 3168, 22nH, 4A, 5.2mΩ; Manufacturer Part Number: 744914122; Manufacturer: Wurth Elektronik; Case/Size Code: 3168; Inductance Tolerance: 5%; Q Factor: 102; Self Resonant Frequency: 2.1GHz; Category: RF Inductors; Match Code: WE-CAIR; ComponentLink1Description: Website Link; ComponentLink1URL: https://www.we-online.com/redexpert/article/744914122?ad; ComponentLink2Description: Datasheet Link; ComponentLink2URL: https://www.we-online.com/redexpert/spec/744914122?ad; Mount: Surface Mount; Operating Temperature Max: 125°C; Operating Temperature Min: -40°C; Packaging: Tape and Reel; Length: 6.68mm; Width: 3.05mm; Height: 3.18mm; DC Resistance Max: 5.2mΩ; Inductance: 22nH; Rated Current: 4A
footprint WE-CAIR_3168
simulation model 3168_744914122_22n
pins: 1, 2

## 744914122G
designator L?, comment 22nH  (value not drawn)
WE-CAIR SMT Air Coil, size 3168, 22nH, 4A, 5.2mΩ; Manufacturer Part Number: 744914122G; Manufacturer: Wurth Elektronik; Case/Size Code: 3168; Inductance Tolerance: 2%; Q Factor: 102; Self Resonant Frequency: 2.1GHz; Category: RF Inductors; Match Code: WE-CAIR; ComponentLink1Description: Website Link; ComponentLink1URL: https://www.we-online.com/redexpert/article/744914122G?ad; ComponentLink2Description: Datasheet Link; ComponentLink2URL: https://www.we-online.com/redexpert/spec/744914122G?ad; Mount: Surface Mount; Operating Temperature Max: 125°C; Operating Temperature Min: -40°C; Packaging: Tape and Reel; Length: 6.68mm; Width: 3.05mm; Height: 3.18mm; DC Resistance Max: 5.2mΩ; Inductance: 22nH; Rated Current: 4A
footprint WE-CAIR_3168
simulation model 3168_744914122G_22n
pins: 1, 2

## 744914128
designator L?, comment 28nH  (value not drawn)
WE-CAIR SMT Air Coil, size 3168, 28nH, 4A, 6mΩ; Manufacturer Part Number: 744914128; Manufacturer: Wurth Elektronik; Case/Size Code: 3168; Inductance Tolerance: 5%; Q Factor: 105; Self Resonant Frequency: 1.8GHz; Category: RF Inductors; Match Code: WE-CAIR; ComponentLink1Description: Website Link; ComponentLink1URL: https://www.we-online.com/redexpert/article/744914128?ad; ComponentLink2Description: Datasheet Link; ComponentLink2URL: https://www.we-online.com/redexpert/spec/744914128?ad; Mount: Surface Mount; Operating Temperature Max: 125°C; Operating Temperature Min: -40°C; Packaging: Tape and Reel; Length: 6.68mm; Width: 3.05mm; Height: 3.18mm; DC Resistance Max: 6mΩ; Inductance: 28nH; Rated Current: 4A
footprint WE-CAIR_3168
simulation model 3168_744914128_28n
pins: 1, 2

## 744914128G
designator L?, comment 28nH  (value not drawn)
WE-CAIR SMT Air Coil, size 3168, 28nH, 4A, 6mΩ; Manufacturer Part Number: 744914128G; Manufacturer: Wurth Elektronik; Case/Size Code: 3168; Inductance Tolerance: 2%; Q Factor: 105; Self Resonant Frequency: 1.8GHz; Category: RF Inductors; Match Code: WE-CAIR; ComponentLink1Description: Website Link; ComponentLink1URL: https://www.we-online.com/redexpert/article/744914128G?ad; ComponentLink2Description: Datasheet Link; ComponentLink2URL: https://www.we-online.com/redexpert/spec/744914128G?ad; Mount: Surface Mount; Operating Temperature Max: 125°C; Operating Temperature Min: -40°C; Packaging: Tape and Reel; Length: 6.68mm; Width: 3.05mm; Height: 3.18mm; DC Resistance Max: 6mΩ; Inductance: 28nH; Rated Current: 4A
footprint WE-CAIR_3168
simulation model 3168_744914128G_28n
pins: 1, 2

## 744914135
designator L?, comment 35.5nH  (value not drawn)
WE-CAIR SMT Air Coil, size 3168, 35.5nH, 4A, 6.8mΩ; Manufacturer Part Number: 744914135; Manufacturer: Wurth Elektronik; Case/Size Code: 3168; Inductance Tolerance: 5%; Q Factor: 112; Self Resonant Frequency: 1.5GHz; Category: RF Inductors; Match Code: WE-CAIR; ComponentLink1Description: Website Link; ComponentLink1URL: https://www.we-online.com/redexpert/article/744914135?ad; ComponentLink2Description: Datasheet Link; ComponentLink2URL: https://www.we-online.com/redexpert/spec/744914135?ad; Mount: Surface Mount; Operating Temperature Max: 125°C; Operating Temperature Min: -40°C; Packaging: Tape and Reel; Length: 6.68mm; Width: 3.05mm; Height: 3.18mm; DC Resistance Max: 6.8mΩ; Inductance: 35.5nH; Rated Current: 4A
footprint WE-CAIR_3168
simulation model 3168_744914135_35.5n
pins: 1, 2

## 744914135G
designator L?, comment 35.5nH  (value not drawn)
WE-CAIR SMT Air Coil, size 3168, 35.5nH, 4A, 6.8mΩ; Manufacturer Part Number: 744914135G; Manufacturer: Wurth Elektronik; Case/Size Code: 3168; Inductance Tolerance: 2%; Q Factor: 112; Self Resonant Frequency: 1.5GHz; Category: RF Inductors; Match Code: WE-CAIR; ComponentLink1Description: Website Link; ComponentLink1URL: https://www.we-online.com/redexpert/article/744914135G?ad; ComponentLink2Description: Datasheet Link; ComponentLink2URL: https://www.we-online.com/redexpert/spec/744914135G?ad; Mount: Surface Mount; Operating Temperature Max: 125°C; Operating Temperature Min: -40°C; Packaging: Tape and Reel; Length: 6.68mm; Width: 3.05mm; Height: 3.18mm; DC Resistance Max: 6.8mΩ; Inductance: 35.5nH; Rated Current: 4A
footprint WE-CAIR_3168
simulation model 3168_744914135G_35.5n
pins: 1, 2

## 744914143
designator L?, comment 43nH  (value not drawn)
WE-CAIR SMT Air Coil, size 3168, 43nH, 4A, 7.9mΩ; Manufacturer Part Number: 744914143; Manufacturer: Wurth Elektronik; Case/Size Code: 3168; Inductance Tolerance: 5%; Q Factor: 106; Self Resonant Frequency: 1.2GHz; Category: RF Inductors; Match Code: WE-CAIR; ComponentLink1Description: Website Link; ComponentLink1URL: https://www.we-online.com/redexpert/article/744914143?ad; ComponentLink2Description: Datasheet Link; ComponentLink2URL: https://www.we-online.com/redexpert/spec/744914143?ad; Mount: Surface Mount; Operating Temperature Max: 125°C; Operating Temperature Min: -40°C; Packaging: Tape and Reel; Length: 6.68mm; Width: 3.05mm; Height: 3.18mm; DC Resistance Max: 7.9mΩ; Inductance: 43nH; Rated Current: 4A
footprint WE-CAIR_3168
simulation model 3168_744914143_43n
pins: 1, 2

## 744914143G
designator L?, comment 43nH  (value not drawn)
WE-CAIR SMT Air Coil, size 3168, 43nH, 4A, 7.9mΩ; Manufacturer Part Number: 744914143G; Manufacturer: Wurth Elektronik; Case/Size Code: 3168; Inductance Tolerance: 2%; Q Factor: 106; Self Resonant Frequency: 1.2GHz; Category: RF Inductors; Match Code: WE-CAIR; ComponentLink1Description: Website Link; ComponentLink1URL: https://www.we-online.com/redexpert/article/744914143G?ad; ComponentLink2Description: Datasheet Link; ComponentLink2URL: https://www.we-online.com/redexpert/spec/744914143G?ad; Mount: Surface Mount; Operating Temperature Max: 125°C; Operating Temperature Min: -40°C; Packaging: Tape and Reel; Length: 6.68mm; Width: 3.05mm; Height: 3.18mm; DC Resistance Max: 7.9mΩ; Inductance: 43nH; Rated Current: 4A
footprint WE-CAIR_3168
simulation model 3168_744914143G_43n
pins: 1, 2

## 744918190
designator L?, comment 90nH  (value not drawn)
WE-CAIR SMT Air Coil, size 5910, 90nH, 3.5A, 15mΩ; Manufacturer Part Number: 744918190; Manufacturer: Wurth Elektronik; Case/Size Code: 5910; Inductance Tolerance: 5%; Q Factor: 100; Self Resonant Frequency: 1.14GHz; Category: RF Inductors; Match Code: WE-CAIR; ComponentLink1Description: Website Link; ComponentLink1URL: https://www.we-online.com/redexpert/article/744918190?ad; ComponentLink2Description: Datasheet Link; ComponentLink2URL: https://www.we-online.com/redexpert/spec/744918190?ad; Mount: Surface Mount; Operating Temperature Max: 125°C; Operating Temperature Min: -40°C; Packaging: Tape and Reel; Length: 10.55mm; Width: 6.35mm; Height: 5.9mm; DC Resistance Max: 15mΩ; Inductance: 90nH; Rated Current: 3.5A
footprint WE-CAIR_5910
simulation model 5910_744918190_90n
pins: 1, 2

## 744918211
designator L?, comment 111nH  (value not drawn)
WE-CAIR SMT Air Coil, size 5910, 111nH, 3.5A, 15mΩ; Manufacturer Part Number: 744918211; Manufacturer: Wurth Elektronik; Case/Size Code: 5910; Inductance Tolerance: 5%; Q Factor: 100; Self Resonant Frequency: 1.02GHz; Category: RF Inductors; Match Code: WE-CAIR; ComponentLink1Description: Website Link; ComponentLink1URL: https://www.we-online.com/redexpert/article/744918211?ad; ComponentLink2Description: Datasheet Link; ComponentLink2URL: https://www.we-online.com/redexpert/spec/744918211?ad; Mount: Surface Mount; Operating Temperature Max: 125°C; Operating Temperature Min: -40°C; Packaging: Tape and Reel; Length: 10.55mm; Width: 6.35mm; Height: 5.9mm; DC Resistance Max: 15mΩ; Inductance: 111nH; Rated Current: 3.5A
footprint WE-CAIR_5910
simulation model 5910_744918211_111n
pins: 1, 2

## 744918213
designator L?, comment 130nH  (value not drawn)
WE-CAIR SMT Air Coil, size 5910, 130nH, 3A, 20mΩ; Manufacturer Part Number: 744918213; Manufacturer: Wurth Elektronik; Case/Size Code: 5910; Inductance Tolerance: 5%; Q Factor: 100; Self Resonant Frequency: 0.9GHz; Category: RF Inductors; Match Code: WE-CAIR; ComponentLink1Description: Website Link; ComponentLink1URL: https://www.we-online.com/redexpert/article/744918213?ad; ComponentLink2Description: Datasheet Link; ComponentLink2URL: https://www.we-online.com/redexpert/spec/744918213?ad; Mount: Surface Mount; Operating Temperature Max: 125°C; Operating Temperature Min: -40°C; Packaging: Tape and Reel; Length: 10.55mm; Width: 6.35mm; Height: 5.9mm; DC Resistance Max: 20mΩ; Inductance: 130nH; Rated Current: 3A
footprint WE-CAIR_5910
simulation model 5910_744918213_130n
pins: 1, 2

## 744918217
designator L?, comment 169nH  (value not drawn)
WE-CAIR SMT Air Coil, size 5910, 169nH, 3A, 25mΩ; Manufacturer Part Number: 744918217; Manufacturer: Wurth Elektronik; Case/Size Code: 5910; Inductance Tolerance: 5%; Q Factor: 100; Self Resonant Frequency: 0.875GHz; Category: RF Inductors; Match Code: WE-CAIR; ComponentLink1Description: Website Link; ComponentLink1URL: https://www.we-online.com/redexpert/article/744918217?ad; ComponentLink2Description: Datasheet Link; ComponentLink2URL: https://www.we-online.com/redexpert/spec/744918217?ad; Mount: Surface Mount; Operating Temperature Max: 125°C; Operating Temperature Min: -40°C; Packaging: Tape and Reel; Length: 10.55mm; Width: 6.35mm; Height: 5.9mm; DC Resistance Max: 25mΩ; Inductance: 169nH; Rated Current: 3A
footprint WE-CAIR_5910
simulation model 5910_744918217_169n
pins: 1, 2

## 744918220
designator L?, comment 206nH  (value not drawn)
WE-CAIR SMT Air Coil, size 5910, 206nH, 3A, 30mΩ; Manufacturer Part Number: 744918220; Manufacturer: Wurth Elektronik; Case/Size Code: 5910; Inductance Tolerance: 5%; Q Factor: 100; Self Resonant Frequency: 0.8GHz; Category: RF Inductors; Match Code: WE-CAIR; ComponentLink1Description: Website Link; ComponentLink1URL: https://www.we-online.com/redexpert/article/744918220?ad; ComponentLink2Description: Datasheet Link; ComponentLink2URL: https://www.we-online.com/redexpert/spec/744918220?ad; Mount: Surface Mount; Operating Temperature Max: 125°C; Operating Temperature Min: -40°C; Packaging: Tape and Reel; Length: 10.55mm; Width: 6.35mm; Height: 5.9mm; DC Resistance Max: 30mΩ; Inductance: 206nH; Rated Current: 3A
footprint WE-CAIR_5910
simulation model 5910_744918220_206n
pins: 1, 2

## 744918222
designator L?, comment 222nH  (value not drawn)
WE-CAIR SMT Air Coil, size 5910, 222nH, 3A, 35mΩ; Manufacturer Part Number: 744918222; Manufacturer: Wurth Elektronik; Case/Size Code: 5910; Inductance Tolerance: 5%; Q Factor: 100; Self Resonant Frequency: 0.73GHz; Category: RF Inductors; Match Code: WE-CAIR; ComponentLink1Description: Website Link; ComponentLink1URL: https://www.we-online.com/redexpert/article/744918222?ad; ComponentLink2Description: Datasheet Link; ComponentLink2URL: https://www.we-online.com/redexpert/spec/744918222?ad; Mount: Surface Mount; Operating Temperature Max: 125°C; Operating Temperature Min: -40°C; Packaging: Tape and Reel; Length: 10.55mm; Width: 6.35mm; Height: 5.9mm; DC Resistance Max: 35mΩ; Inductance: 222nH; Rated Current: 3A
footprint WE-CAIR_5910
simulation model 5910_744918222_222n
pins: 1, 2

## 744918224
designator L?, comment 246nH  (value not drawn)
WE-CAIR SMT Air Coil, size 5910, 246nH, 3A, 35mΩ; Manufacturer Part Number: 744918224; Manufacturer: Wurth Elektronik; Case/Size Code: 5910; Inductance Tolerance: 5%; Q Factor: 100; Self Resonant Frequency: 0.685GHz; Category: RF Inductors; Match Code: WE-CAIR; ComponentLink1Description: Website Link; ComponentLink1URL: https://www.we-online.com/redexpert/article/744918224?ad; ComponentLink2Description: Datasheet Link; ComponentLink2URL: https://www.we-online.com/redexpert/spec/744918224?ad; Mount: Surface Mount; Operating Temperature Max: 125°C; Operating Temperature Min: -40°C; Packaging: Tape and Reel; Length: 10.55mm; Width: 6.35mm; Height: 5.9mm; DC Resistance Max: 35mΩ; Inductance: 246nH; Rated Current: 3A
footprint WE-CAIR_5910
simulation model 5910_744918224_246n
pins: 1, 2

## 744918230
designator L?, comment 307nH  (value not drawn)
WE-CAIR SMT Air Coil, size 5910, 307nH, 3A, 35mΩ; Manufacturer Part Number: 744918230; Manufacturer: Wurth Elektronik; Case/Size Code: 5910; Inductance Tolerance: 5%; Q Factor: 100; Self Resonant Frequency: 0.66GHz; Category: RF Inductors; Match Code: WE-CAIR; ComponentLink1Description: Website Link; ComponentLink1URL: https://www.we-online.com/redexpert/article/744918230?ad; ComponentLink2Description: Datasheet Link; ComponentLink2URL: https://www.we-online.com/redexpert/spec/744918230?ad; Mount: Surface Mount; Operating Temperature Max: 125°C; Operating Temperature Min: -40°C; Packaging: Tape and Reel; Length: 10.55mm; Width: 6.35mm; Height: 5.9mm; DC Resistance Max: 35mΩ; Inductance: 307nH; Rated Current: 3A
footprint WE-CAIR_5910
simulation model 5910_744918230_307n
pins: 1, 2

## 744918238
designator L?, comment 380nH  (value not drawn)
WE-CAIR SMT Air Coil, size 5910, 380nH, 2.5A, 50mΩ; Manufacturer Part Number: 744918238; Manufacturer: Wurth Elektronik; Case/Size Code: 5910; Inductance Tolerance: 5%; Q Factor: 100; Self Resonant Frequency: 0.59GHz; Category: RF Inductors; Match Code: WE-CAIR; ComponentLink1Description: Website Link; ComponentLink1URL: https://www.we-online.com/redexpert/article/744918238?ad; ComponentLink2Description: Datasheet Link; ComponentLink2URL: https://www.we-online.com/redexpert/spec/744918238?ad; Mount: Surface Mount; Operating Temperature Max: 125°C; Operating Temperature Min: -40°C; Packaging: Tape and Reel; Length: 10.55mm; Width: 6.35mm; Height: 5.9mm; DC Resistance Max: 50mΩ; Inductance: 380nH; Rated Current: 2.5A
footprint WE-CAIR_5910
simulation model 5910_744918238_380n
pins: 1, 2

## 744918242
designator L?, comment 422nH  (value not drawn)
WE-CAIR SMT Air Coil, size 5910, 422nH, 2.5A, 60mΩ; Manufacturer Part Number: 744918242; Manufacturer: Wurth Elektronik; Case/Size Code: 5910; Inductance Tolerance: 5%; Q Factor: 100; Self Resonant Frequency: 0.54GHz; Category: RF Inductors; Match Code: WE-CAIR; ComponentLink1Description: Website Link; ComponentLink1URL: https://www.we-online.com/redexpert/article/744918242?ad; ComponentLink2Description: Datasheet Link; ComponentLink2URL: https://www.we-online.com/redexpert/spec/744918242?ad; Mount: Surface Mount; Operating Temperature Max: 125°C; Operating Temperature Min: -40°C; Packaging: Tape and Reel; Length: 10.55mm; Width: 6.35mm; Height: 5.9mm; DC Resistance Max: 60mΩ; Inductance: 422nH; Rated Current: 2.5A
footprint WE-CAIR_5910
simulation model 5910_744918242_422n
pins: 1, 2